# Altium footprint library nrf24l01-breakout.PCBLIB: 2 footprints
Each footprint in its own frame and in the unit in brackets; x right, y up, seen from the top. Pads: shape width x height; smd on the part's side, far side on the other; paste and mask are expansions set on the pad; w line width, h text height; cw(c..) or ccw(c..) is an arc to the next point about the centre after c.
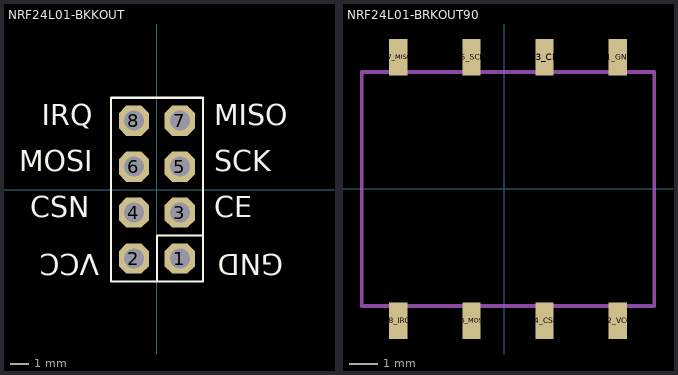
[diagram p0: the footprints below, top view; thin cyan lines are the x and y axes]

## NRF24L01-BKKOUT [mil]
pads (8):
  oct 66x66 hole 44: 1(50,-150) 2(-50,-150) 3(50,-50) 4(-50,-50) 5(50,50) 6(-50,50) 7(50,150) 8(-50,150)
Top Overlay:
  lines w5: 0,-200 -100,-200 -100,200 100,200 100,-100 ; 0,-200 100,-200 100,-100 ; 0,-200 0,-100 100,-100
  text "GND" at 275,-125 h77.5
  text "VCC" at -125,-125 h77.5
  text "CE" at 125,-75 h77.5
  text "SCK" at 125,25 h77.5
  text "MISO" at 125,125 h77.5
  text "IRQ" at -250,125 h77.5
  text "MOSI" at -300,25 h77.5
  text "CSN" at -275,-75 h77.5

## NRF24L01-BRKOUT90 [mil]
pads (8):
  rect 25x50 smd: P1_GND(155,180) P2_VCC(155,-180.04) P3_CE(55,180) P4_CSN(55,-180) P5_SCK(-45,180) P6_MOSI(-45,-180) P7_MISO(-145,180) P8_IRQ(-145,-180)
Mechanical 13:
  lines w5: -195,-160 205,-160 205,160 -195,160 -195,-160